# Altium footprint library 辉光管.PcbLib: 29 footprints (part 2 of 2)
Each footprint in its own frame and in the unit in brackets; x right, y up, seen from the top. Pads: shape width x height; smd on the part's side, far side on the other; paste and mask are expansions set on the pad; w line width, h text height; cw(c..) or ccw(c..) is an arc to the next point about the centre after c.
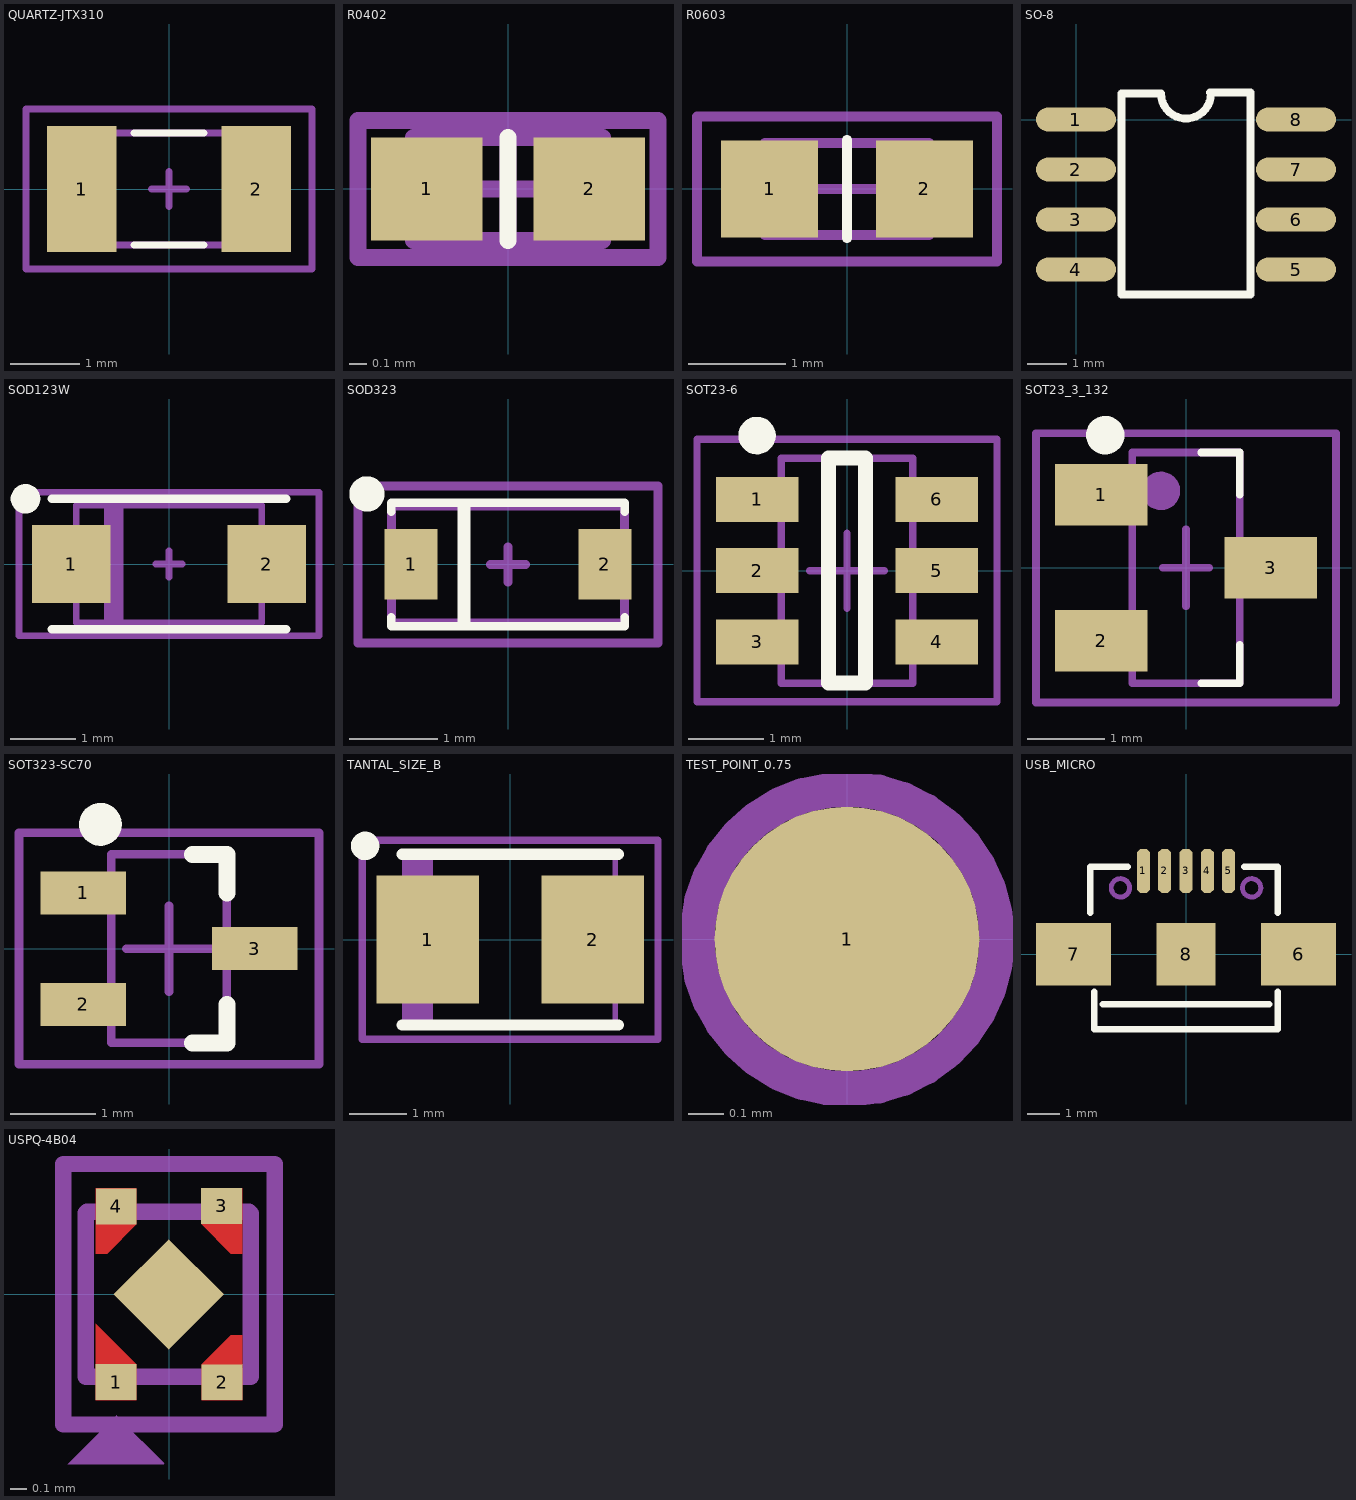
[diagram p1: the footprints below, top view; thin cyan lines are the x and y axes]

## QUARTZ-JTX310 [mm] "SMD Crystal Quartz, 3.2 x 1.5 mm, medium density"
height 1
pads (2):
  rect 1x1.8 smd: 1(-1.25,0) 2(1.25,0)
Top Overlay:
  lines w0.1: -0.5,-0.8 0.5,-0.8 ; -0.5,0.8 0.5,0.8
Mechanical 1:
  lines w0.1: -0.25,0 0.25,0 ; 0,-0.25 0,0.25 ; -2.05,-1.15 2.05,-1.15 2.05,1.15 -2.05,1.15 -2.05,-1.15
Mechanical 2:
  lines w0.1: -1.65,-0.8 -1.65,0.8 1.65,0.8 1.65,-0.8 -1.65,-0.8
3D body: height 1, standoff 0, extent -1.65,-0.8 1.65,0.8

## R0402 [mm] "Chip Resistor, 2-Leads, Body 1,0x0,5mm, IPC High Density"
height 0.4
pads (2):
  rect 0.65x0.6 smd mask+0: 1(-0.475,0) 2(0.475,0)
Top Overlay:
  lines w0.1: 0,-0.3 0,0.3
Mechanical 1:
  lines w0.1: -0.3,0 0.3,0 ; 0,-0.3 0,0.3 ; -0.875,-0.4 -0.875,0.4 0.875,0.4 0.875,-0.4 -0.875,-0.4
Mechanical 2:
  lines w0.1: -0.55,-0.3 -0.55,0.3 0.55,0.3 0.55,-0.3 -0.55,-0.3
3D body: height 0.38, standoff 0, extent -0.5,-0.25 0.5,0.25

## R0603 [mm] "Chip Resistor, 2-Leads, Body 1,6x0,8mm, IPC Medium Density"
height 0.55
pads (2):
  rect 1x1 smd: 1(-0.8,0) 2(0.8,0)
Top Overlay:
  lines w0.1: 0,-0.508 0,0.508
Mechanical 1:
  lines w0.1: -0.475,0 0.475,0 ; 0,-0.475 0,0.475 ; -1.55,-0.75 1.55,-0.75 1.55,0.75 -1.55,0.75 -1.55,-0.75
Mechanical 2:
  lines w0.1: -0.85,-0.475 0.85,-0.475 0.85,0.475 -0.85,0.475 -0.85,-0.475
3D body: height 0.37, standoff 0, extent -0.8,-0.401 0.8,0.401

## SO-8 [mil]
pads (8):
  oval 80x24 smd: 1(-0.5,0.06) 2(-0.5,-49.94) 3(-0.5,-99.94) 4(-0.5,-149.94) 5(219.5,-149.94) 6(219.5,-99.94) 7(219.5,-49.94) 8(219.5,0.06)
Top Overlay:
  lines w7.87: 44.82,-174.94 174.19,-174.94 ; 44.82,-173.94 44.82,26.06 84.5,26.06 ccw(c109.5,26.06) 134.5,26.06 ; 133.5,27.06 174.19,27.06 ; 174.19,-173.94 174.19,26.06
3D body: height 61.02, standoff -1.97, extent -8.17,-169.24 227.65,23.68

## SOD123W [mm] "Molded Diode, 2-Leads, Body 3,5x1,7mm, IPC High Density"
height 1.1
pads (2):
  rect 1.2x1.2 smd mask+0: 1(-1.5,0) 2(1.5,0)
Top Overlay:
  circle w0.254: c-2.2,1 r0.1
  lines w0.127: -1.8,-1 1.8,-1 ; -1.8,1 1.8,1
Mechanical 1:
  lines w0.1: -0.2,0 0.2,0 ; 0,-0.2 0,0.2 ; -2.3,-1.1 -2.3,1.1 2.3,1.1 2.3,-1.1 -2.3,-1.1
Mechanical 2:
  rectangle: -1,-0.95 -0.7,0.95
  lines w0.1: -1.425,-0.275 -1.875,-0.275 -1.875,0.275 -1.425,0.275 ; 1.425,-0.275 1.875,-0.275 1.875,0.275 1.425,0.275 ; -1.425,-0.9 1.425,-0.9 1.425,0.9 -1.425,0.9 -1.425,-0.9
Mechanical 9:
  text "SOD123" at -1.8,-0.9 h0.6
3D body: height 1.42, standoff -0.03, extent -1.925,-0.85 1.925,0.85
3D body: height 0.1, standoff -0.1, extent -2.1,-0.6 -0.9,0.6
3D body: height 0.1, standoff -0.1, extent 0.9,-0.6 2.1,0.6

## SOD323 [mm] "Molded SOD323, Body 2,7X1,35(MAX)"
height 1.2
pads (2):
  rect 0.6x0.8 smd mask+0: 1(-1.1,0) 2(1.1,0)
Top Overlay:
  circle w0.2: c-1.6,0.8 r0.1
  lines w0.1: -1.325,-0.6 -1.325,-0.7 1.325,-0.7 1.325,-0.6 ; -1.325,0.6 -1.325,0.7 1.325,0.7 1.325,0.6
  lines w0.15: -0.5,-0.66 -0.5,0.66
Mechanical 1:
  lines w0.1: -0.2,0 0.2,0 ; 0,-0.2 0,0.2 ; -1.702,-0.889 -1.702,0.889 1.702,0.889 1.702,-0.889 -1.702,-0.889
Mechanical 2:
  lines w0.1: -0.5,-0.66 -0.5,0.66 ; -1.321,-0.66 1.321,-0.66 1.321,0.66 -1.321,0.66 -1.321,-0.66
3D body: height 1.1, standoff 0, extent -1.3,-0.675 1.3,0.675
3D body: height 0.1, standoff -0.1, extent -1.4,-0.4 -0.8,0.4
3D body: height 0.1, standoff -0.1, extent 0.8,-0.4 1.4,0.4

## SOT23-6 [mm] "Max4173"
height 1.45
pads (6):
  rect 1.1x0.6 smd: 1(-1.2,0.95) 2(-1.2,0) 3(-1.2,-0.95) 4(1.2,-0.95) 5(1.2,0) 6(1.2,0.95)
Top Overlay:
  circle w0.25: c-1.2,1.8 r0.125
  lines w0.2: -0.25,-1.5 -0.25,1.5 0.25,1.5 0.25,-1.5 -0.25,-1.5
Mechanical 13:
  lines w0.1: -0.875,-1.5 0.875,-1.5 0.875,1.5 -0.875,1.5 -0.875,-1.5
Mechanical 15:
  lines w0.1: -0.5,0 0.5,0 ; 0,-0.5 0,0.5 ; -2,-1.75 2,-1.75 2,1.75 -2,1.75 -2,-1.75
3D body: height 1.45, standoff 0, extent -0.875,-1.5 0.875,1.5

## SOT23_3_132 [mm] "SOT23, 3-Leads, Body 3,0x2,6mm (max), Pitch 0,95mm, IPC Medium Density"
height 1.1
pads (3):
  rect 1.2x0.8 smd: 1(-1.1,0.95) 2(-1.1,-0.95) 3(1.1,0)
Top Overlay:
  circle w0.25: c-1.05,1.725 r0.125
  lines w0.1: 0.2,-1.5 0.7,-1.5 0.7,-1 ; 0.2,1.5 0.7,1.5 0.7,0.95
Mechanical 1:
  lines w0.1: -0.3,0 0.3,0 ; 0,-0.5 0,0.5 ; -1.95,-1.75 1.95,-1.75 1.95,1.75 -1.95,1.75 -1.95,-1.75
Mechanical 2:
  circle w0.25: c-0.325,1 r0.125
  lines w0.1: -0.7,-1.203 -1.425,-1.203 -1.425,-0.693 -0.7,-0.692 ; -0.7,0.697 -1.425,0.697 -1.425,1.208 -0.7,1.208 ; 0.7,-0.262 1.425,-0.262 1.425,0.249 0.7,0.249 ; -0.7,-1.5 -0.7,1.5 0.7,1.5 0.7,-1.5 -0.7,-1.5
Mechanical 9:
  text "SOT23" at -1.4,-1.4 h0.6
3D body: height 1, standoff -0.02, extent -1.25,-1.46 1.226,1.46
3D body: height 1.12, standoff 0, extent -0.7,-1.55 0.7,1.55
3D body: height 0.1, standoff -0.1, extent -1.7,0.55 -0.5,1.35
3D body: height 0.1, standoff -0.1, extent -1.7,-1.35 -0.5,-0.55
3D body: height 0.1, standoff -0.1, extent 0.5,-0.4 1.7,0.4

## SOT323-SC70 [mm] "SOT23, 3-Leads, Body 2.2x2.2mm (max), Pitch 0.65mm, IPC Medium Density"
height 1
pads (3):
  rect 1x0.5 smd: 1(-1,0.65) 2(-1,-0.65) 3(1,0)
Top Overlay:
  circle w0.25: c-0.8,1.45 r0.125
  lines w0.2: 0.275,-1.1 0.675,-1.1 0.675,-0.65 ; 0.275,1.1 0.675,1.1 0.675,0.65
Mechanical 13:
  lines w0.1: -0.675,-1.1 -0.675,1.1 0.675,1.1 0.675,-1.1 -0.675,-1.1
Mechanical 15:
  lines w0.1: -0.5,0 0.5,0 ; 0,-0.5 0,0.5 ; -1.75,-1.35 -1.75,1.35 1.75,1.35 1.75,-1.35 -1.75,-1.35
3D body: height -0.4, standoff -1.5, extent -1.123,-1.1 1.122,1.1

## TANTAL_SIZE_B [mm] "Tantal Capacitor, Body 3,5 x 2,8, IPC Medium Density"
height 2.1
pads (2):
  rect 1.8x2.25 smd: 1(-1.45,0) 2(1.45,0)
Top Overlay:
  circle w0.25: c-2.55,1.65 r0.125
  lines w0.2: -1.9,-1.5 1.9,-1.5 ; -1.9,1.5 1.9,1.5
Mechanical 1:
  lines w0.127: -2.6,-1.75 2.6,-1.75 2.6,1.75 -2.6,1.75 -2.6,-1.75
Mechanical 4:
  rectangle: -1.85,-1.5 -1.352,1.5
  lines w0.1: -1.85,-1.5 1.85,-1.5 1.85,1.5 -1.85,1.5 -1.85,-1.5
3D body: height 2.11, standoff -0.04, extent -2.499,-1.499 2.499,1.498

## TEST_POINT_0.75 [mm] "TEST_POINT_0.75mm - 0815-0014"
height 0.05
pads (1):
  round 0.75 smd paste-0.75 mask+0.1: 1(0,0)
Mechanical 1:
  circle w0.1: c0,0 r0.425
Mechanical 2:
  circle w0.09: c0,0 r0.425
3D body: height 0.1, standoff 0, extent -0.372,-0.374 0.375,0.374

## USB_MICRO [mm] "USB方孔"
height 8
pads (8):
  oct 0.4x1.35 smd: 1(-1.3,2.54) 2(-0.65,2.54) 3(0,2.54) 4(0.65,2.54) 5(1.3,2.54)
  rect 2.286x1.9 smd: 6(3.429,0) 7(-3.429,0)
  rect 1.8x1.9 smd: 8(0,0)
Top Overlay:
  lines w0.2: -2.921,1.27 -2.921,2.667 -1.778,2.667 ; -2.794,-1.143 -2.794,-2.286 2.794,-2.286 2.794,-1.143 ; -2.54,-1.524 2.54,-1.524 ; 1.778,2.667 2.794,2.667 2.794,1.27
Mechanical 1:
  circle w0.15: c2,2.023 r0.28
  circle w0.15: c-2,2.023 r0.28

## USPQ-4B04 [mm]
height 2.75
pads (5):
  rect 0.25x0.22 smd mask+0: 1(-0.325,-0.539) 2(0.326,-0.54) 3(0.323,0.543) 4(-0.325,0.54)
  rect 0.48x0.48 smd rot 45 mask+0.02: ""(-0.001,-0.001)
Top Layer:
  region: -0.45,0.25 -0.38,0.25 -0.2,0.43 -0.2,0.65 -0.45,0.65
  region: -0.45,-0.65 -0.45,-0.18 -0.2,-0.43 -0.2,-0.65
  region: 0.2,-0.65 0.2,-0.43 0.38,-0.25 0.45,-0.25 0.45,-0.65
  region: 0.2,0.43 0.38,0.25 0.45,0.25 0.45,0.65 0.2,0.65
Top Paste:
  region: -0.45,-0.525 -0.45,-0.25 -0.411,-0.25 -0.236,-0.425 -0.236,-0.525
  region: 0.225,-0.525 0.225,-0.425 0.375,-0.275 0.45,-0.275 0.45,-0.525
  region: 0.375,0.275 0.225,0.425 0.225,0.525 0.45,0.525 0.45,0.275
  region: -0.45,0.275 -0.375,0.275 -0.225,0.425 -0.225,0.525 -0.45,0.525
Top Solder:
  region: -0.45,0.25 -0.38,0.25 -0.2,0.43 -0.2,0.65 -0.45,0.65
  region: -0.45,-0.65 -0.45,-0.18 -0.2,-0.43 -0.2,-0.65
  region: 0.2,-0.65 0.2,-0.43 0.38,-0.25 0.45,-0.25 0.45,-0.65
  region: 0.2,0.43 0.38,0.25 0.45,0.25 0.45,0.65 0.2,0.65
Mechanical 1:
  lines w0.1: -0.65,-0.8 -0.65,0.8 0.65,0.8 0.65,-0.8 -0.65,-0.8
Mechanical 2:
  region: -0.328,-0.748 -0.622,-1.042 -0.034,-1.042 -0.03,-1.038 -0.307,-0.76 -0.324,-0.744
  lines w0.1: -0.511,-0.506 0.502,-0.506 0.502,0.496 0.491,0.507 -0.503,0.507 -0.511,0.499 -0.511,-0.506
3D body: height 0.65, standoff 0.05, extent -0.508,-0.508 0.508,0.508